# Altium schematic symbol library Schlib.SchLib: 160 symbols
Pins are listed as number, name and electrical type; pins without a type are passive.

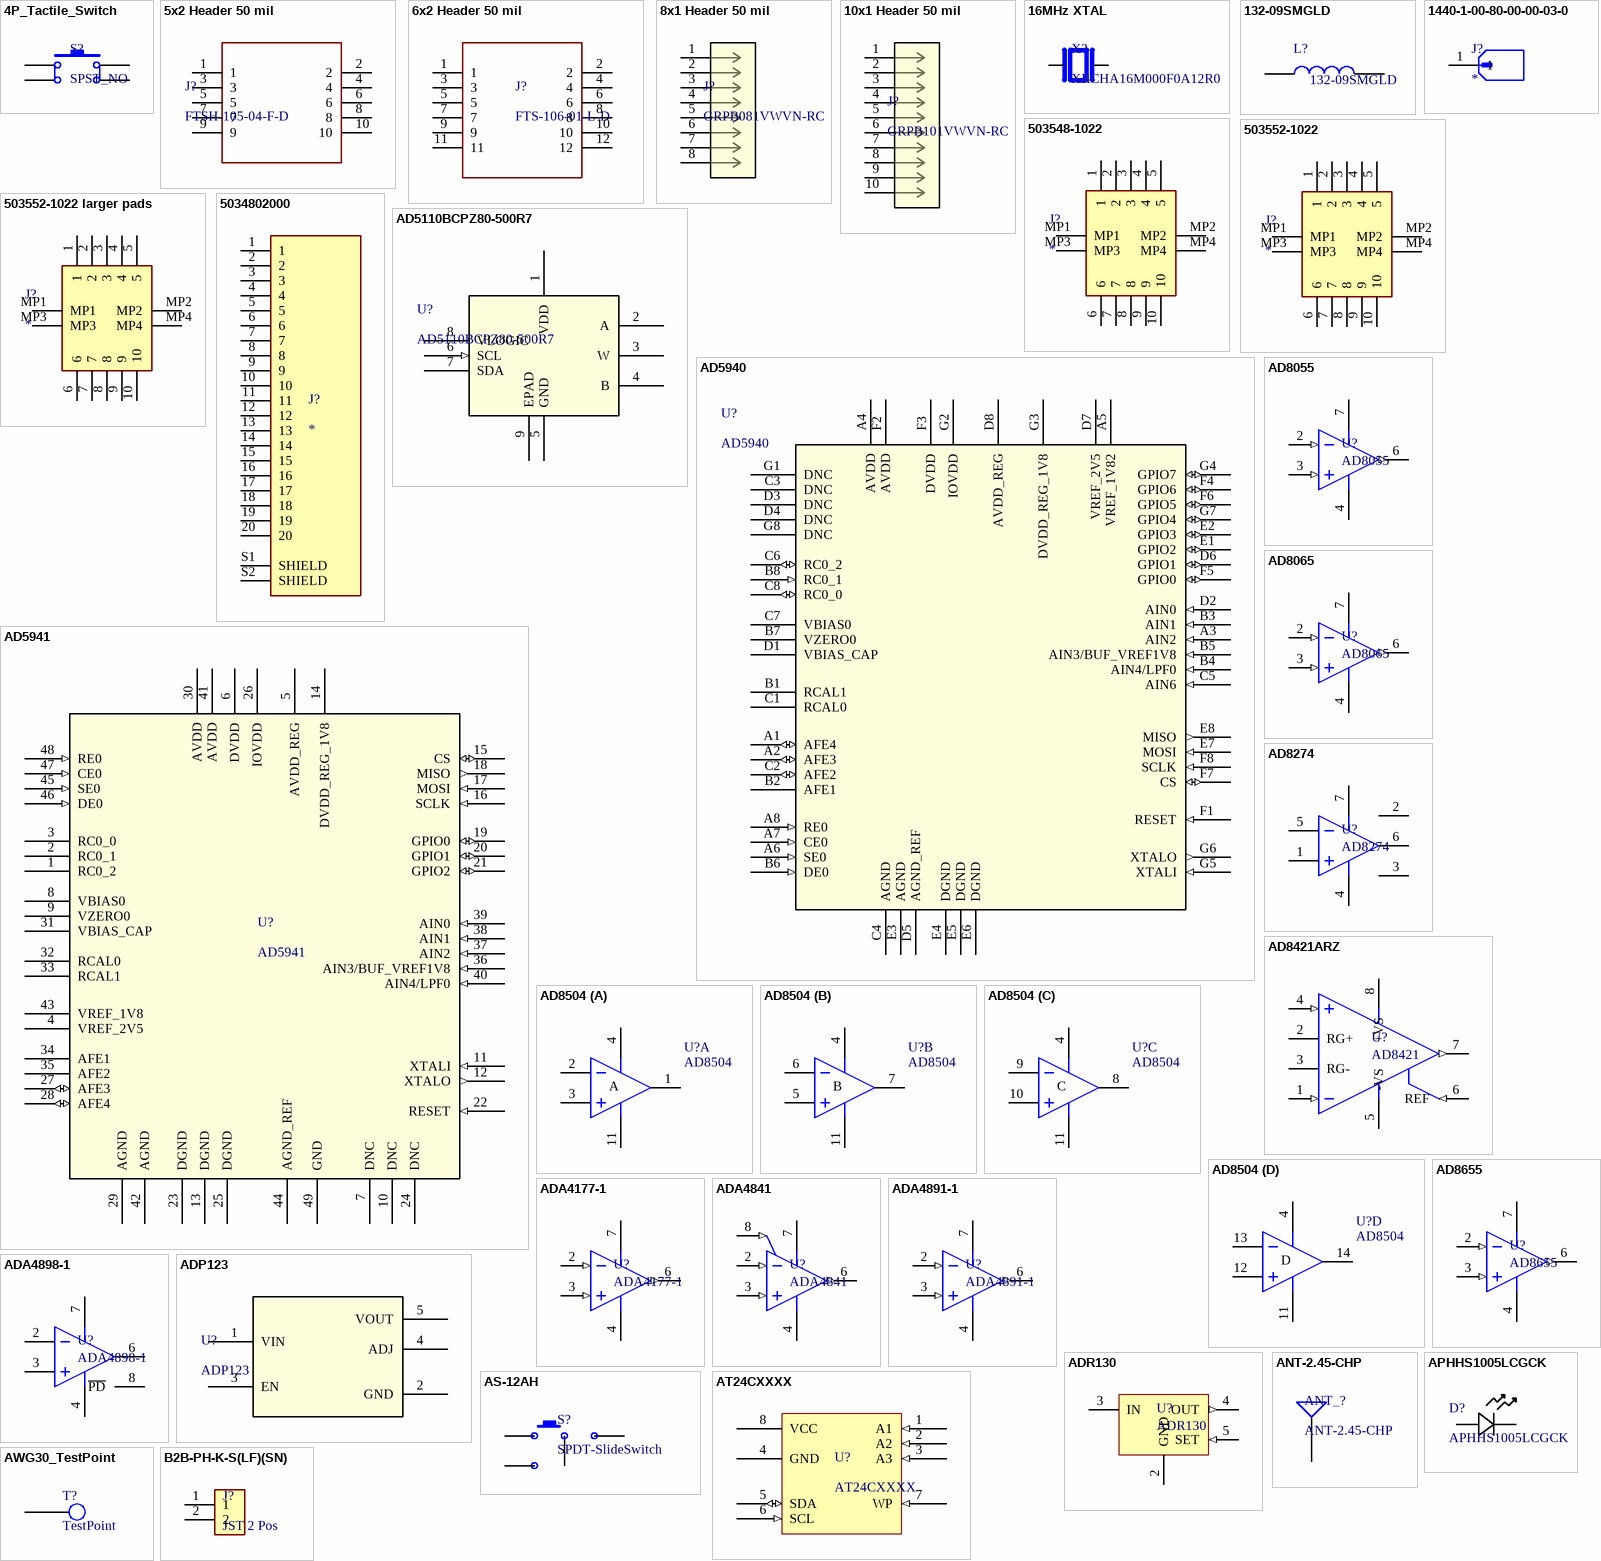
[diagram p0: symbols 4P_Tactile_Switch to B2B-PH-K-S(LF)(SN)]

## 4P_Tactile_Switch
designator S?, comment SPST_NO
4Pin Tactile Switch; Designer: OMIGA
footprint 6x6x5-4Pin-TS (6mm x 6mm x 5mm, 4-Pin, On Board, Tactile Switch)
pins: 1, 2, 3, 4

## 5x2 Header 50 mil
designator J?, comment FTSH-105-04-F-D
CONN HEADER VERT 10POS 1.27MM
footprint SAMTEC-FTSH-105-04-X-D
pins: 1, 2, 3, 4, 5, 6, 7, 8, 9, 10

## 6x2 Header 50 mil
designator J?, comment FTS-106-01-L-D
CONN HEADER VERT 12POS 1.27MM
footprint SAMTEC-FTS-106-01-X-D
pins: 1, 2, 3, 4, 5, 6, 7, 8, 9, 10, 11, 12

## 8x1 Header 50 mil
designator J?, comment GRPB081VWVN-RC
CONN HEADER VERT 8POS 1.27MM
footprint CONN8_VWVN-RC_SUL
pins: 1, 2, 3, 4, 5, 6, 7, 8

## 10x1 Header 50 mil
designator J?, comment GRPB101VWVN-RC
CONN HEADER VERT 10POS 1.27MM
footprint CONN_GRPB101VWVN-RC_SUL
pins: 1, 2, 3, 4, 5, 6, 7, 8, 9, 10

## 16MHz XTAL
designator X?, comment XRCHA16M000F0A12R0
CRYSTAL 16.0000MHZ 8PF SMD
footprint OSC_XRCHA16M000F0A12R0
pins: 1, 2

## 132-09SMGLD
designator L?
Fixed Inductors 90nH Unshld 2% 3.5A 15mOhms; Manufacturer_Name: COILCRAFT; Geometry.Height: 5.97mm; Mouser Part Number: *; Mouser Price/Stock: *; Manufacturer_Part_Number: 132-09SMGLD; Datasheet Link: https://www.coilcraft.com/pdfs/maxi.pdf
footprint 13209SMGLD
pins: 1, 2

## 1440-1-00-80-00-00-03-0
designator J?
PCB PIN, SURFACE MOUNT, 5.08MM; No. of Contacts:-; Connector Type:PCB Pin; Pitch Spacing:-; Product Range:1440 Series; Row Pitch:-; Contact Material:Brass Alloy; Contact Plating:Tin Plated Contacts RoHS Compliant: Yes; MP: 1440-1-00-80-00-00-03-0; MF: Mill-Max Mfg. Corp.; Check_prices: https://www.snapeda.com/parts/1440-1-00-80-00-00-03-0/Mill-Max/view-part/?ref=eda; Value: *; Availability: In Stock; Price: None; Package: None; SnapEDA_Link: https://www.snapeda.com/parts/1440-1-00-80-00-00-03-0/Mill-Max/view-part/?ref=snap; Purchase-URL: https://pricing.snapeda.com/search/part/1440-1-00-80-00-00-03-0/?ref=eda
footprint MILL-MAX_1440-1-00-80-00-00-03-0
pins: 1

## 503548-1022
designator J?
Board to Board Connector Male; Manufacturer_Name: Molex; Manufacturer_Part_Number: 503548-1022; Datasheet Link: https://www.molex.com/pdm_docs/sd/5035481022_sd.pdf; Height: 0.68mm; Mouser Part Number: 538-503548-1022; Mouser Price/Stock: https://www.mouser.co.uk/ProductDetail/Molex/503548-1022?qs=byeeYqUIh0O2sK3i9PoWtA%3D%3D
footprint 5035481022
pins: 1, 2, 3, 4, 5, 6, 7, 8, 9, 10, MP1, MP2, MP3, MP4

## 503552-1022
designator J?
Board to Board Connector Female; Manufacturer_Name: Molex; Manufacturer_Part_Number: 503552-1022; Datasheet Link: https://componentsearchengine.com//503552-1022.pdf; Height: 0.58mm; Mouser2 Part Number: 538-503552-1022; Mouser2 Price/Stock: https://www.mouser.com/Search/Refine.aspx?Keyword=538-503552-1022
footprint 5035521022
pins: 1, 2, 3, 4, 5, 6, 7, 8, 9, 10, MP1, MP2, MP3, MP4

## 503552-1022 larger pads
designator J?
Board to Board Connector Female; Manufacturer_Name: Molex; Manufacturer_Part_Number: 503552-1022; Datasheet Link: https://componentsearchengine.com//503552-1022.pdf; Height: 0.58mm; Mouser2 Part Number: 538-503552-1022; Mouser2 Price/Stock: https://www.mouser.com/Search/Refine.aspx?Keyword=538-503552-1022
footprint 5035521022 - larger pads
pins: 1, 2, 3, 4, 5, 6, 7, 8, 9, 10, MP1, MP2, MP3, MP4

## 5034802000
designator J?
20 Position FFC, FPC Connector Contacts, Top and Bottom 0.020 (0.50mm) Surface Mount, Right Angle; MP: 503480-2000; MF: Molex; Check_prices: https://www.snapeda.com/parts/503480-2000/Molex/view-part/?ref=eda; Value: *; Availability: In Stock; Price: None; Package: None; SnapEDA_Link: https://www.snapeda.com/parts/503480-2000/Molex/view-part/?ref=snap; Purchase-URL: https://pricing.snapeda.com/search/part/503480-2000/?ref=eda
footprint MOLEX_5034802000
pins: 1, 2, 3, 4, 5, 6, 7, 8, 9, 10, 11, 12, 13, 14, 15, 16, 17, 18, 19, 20, S1 SHIELD, S2 SHIELD

## AD5110BCPZ80-500R7
designator U?
No Description Available; Mfr_Name: Analog Devices Inc; Copyright: Copyright (C) 2022 Ultra Librarian. All rights reserved.; Manufacturer_Part_Number: AD5110BCPZ80-500R7; Digi-Key_Part_Number_1: AD5110BCPZ80-500R7CT-ND; Digi-Key_Part_Number_2: AD5110BCPZ80-500R7DKR-ND; Digi-Key_Part_Number_3: AD5110BCPZ80-500R7TR-ND; RefDes: RefDes; Type: DEV
footprint CP_8_10_ADI-L
pins: 1 VDD (power), 2 A, 3 W, 4 B, 5 GND, 6 SCL (in), 7 SDA, 8 VLOGIC (power), 9 EPAD

## AD5940
designator U?
High Precision, Impedance, and / Electrochemical Front End
footprint CB-56-3_ADI
pins: A1 AFE4 (io), A2 AFE3 (io), A3 AIN2 (in), A4 AVDD (power), A5 VREF_1V82 (power), A6 SE0 (in), A7 CE0 (in), A8 RE0 (in), B1 RCAL1, B2 AFE1, B3 AIN1 (in), B4 AIN4/LPF0 (in), B5 AIN3/BUF_VREF1V8 (in), B6 DE0 (in), B7 VZERO0 (power), B8 RC0_1 (in), C1 RCAL0, C2 AFE2 (io), C3 DNC, C4 AGND, C5 AIN6 (in), C6 RC0_2 (io), C7 VBIAS0, C8 RC0_0 (io), D1 VBIAS_CAP (power), D2 AIN0 (in), D3 DNC, D4 DNC, D5 AGND_REF, D6 GPIO1 (io), D7 VREF_2V5 (power), D8 AVDD_REG (power), E1 GPIO2 (io), E2 GPIO3 (io), E3 AGND, E4 DGND, E5 DGND, E6 DGND, E7 MOSI (in), E8 MISO (out), F1 RESET (in), F2 AVDD (power), F3 DVDD (power), F4 GPIO6 (io), F5 GPIO0 (io), F6 GPIO5 (io), F7 CS (io), F8 SCLK (in), G1 DNC, G2 IOVDD (power), G3 DVDD_REG_1V8 (power), G4 GPIO7 (io), G5 XTALI (in), G6 XTALO (out), G7 GPIO4 (io), G8 DNC

## AD5941
designator U?
High Precision, Impedance, and / Electrochemical Front End
footprint LFCSP-48
pins: 1 RC0_2, 2 RC0_1, 3 RC0_0, 4 VREF_2V5 (power), 5 AVDD_REG (power), 6 DVDD (power), 7 DNC, 8 VBIAS0 (power), 9 VZERO0 (power), 10 DNC, 11 XTALI (in), 12 XTALO (out), 13 DGND, 14 DVDD_REG_1V8 (power), 15 CS (io), 16 SCLK (in), 17 MOSI (in), 18 MISO (out), 19 GPIO0 (io), 20 GPIO1 (io), 21 GPIO2 (io), 22 RESET (in), 23 DGND, 24 DNC, 25 DGND, 26 IOVDD (power), 27 AFE3 (io), 28 AFE4 (io), 29 AGND, 30 AVDD (power), 31 VBIAS_CAP (power), 32 RCAL0, 33 RCAL1, 34 AFE1, 35 AFE2, 36 AIN3/BUF_VREF1V8 (in), 37 AIN2 (in), 38 AIN1 (in), 39 AIN0 (in), 40 AIN4/LPF0 (in), 41 AVDD (power), 42 AGND, 43 VREF_1V8 (power), 44 AGND_REF, 45 SE0 (in), 46 DE0 (in), 47 CE0 (in), 48 RE0 (in), 49 GND

## AD8055
designator U?
Low Cost, 300 MHz, Voltage Feedback Amplifiers; Designer: OMIGA
footprint 8ld - SOP_N (SOP, 8-Leads, Body 4.90x3.90mm, Pitch 1.27mm, IPC Low Density)
pins: 1 NC hidden, 2 -IN (in), 3 +IN (in), 4 -VS (power), 5 NC hidden, 6 VOUT (out), 7 +VS (power), 8 NC hidden

## AD8065
designator U?
High Performance, 145 MHz, FastFET Op Amps; Designer: OMIGA
footprint 8ld - SOP_N (SOP, 8-Leads, Body 4.90x3.90mm, Pitch 1.27mm, IPC Low Density)
pins: 1 NC hidden, 2 -IN (in), 3 +IN (in), 4 -VS (power), 5 NC hidden, 6 VOUT (out), 7 +VS (power), 8 NC hidden

## AD8274
designator U?
Very Low Distortion, Precision Difference Amplifier; Designer: OMIGA
footprint 8ld - SOP_N (SOP, 8-Leads, Body 4.90x3.90mm, Pitch 1.27mm, IPC Low Density)
pins: 1 +IN, 2 -OUT, 3 +OUT, 4 -VS (power), 5 -IN, 6 VOUT, 7 +VS (power), 8 NC hidden

## AD8421ARZ
designator U?, comment AD8421
3 nV/√Hz, Low Power, Instrumentation Amplifier; Designer: OMIGA
footprint 8ld - SOP_N (SOP, 8-Leads, Body 4.90x3.90mm, Pitch 1.27mm, IPC Low Density)
pins: 1 -IN (in), 2 RG+, 3 RG-, 4 +IN (in), 5 -VS (power), 6 REF (in), 7 VOUT (out), 8 +VS (power)

## AD8504
designator U?
1 μA Micropower CMOS  Operational Amplifiers; Designer: OMIGA
footprint SOP14 (TSOP, 14-Leads, Body 5.00x4.40mm, Pitch 0.65mm, IPC Low Density)
pins on every part: 4 V+ (power), 11 V- (power)
part A pins: 1 OUT, 2 IN-, 3 IN+
part B pins: 5 IN+, 6 IN-, 7 OUT
part C pins: 8 OUT, 9 IN-, 10 IN+
part D pins: 12 IN+, 13 IN-, 14 OUT
part A text: A
part B text: B
part C text: C
part D text: D

## AD8655
designator U?
Low Noise, Precision CMOS Amplifier; Designer: OMIGA
footprint 8ld - SOP_N (SOP, 8-Leads, Body 4.90x3.90mm, Pitch 1.27mm, IPC Low Density)
pins: 1 NC hidden, 2 -IN (in), 3 +IN (in), 4 -VS (power), 5 NC hidden, 6 VOUT (out), 7 +VS (power), 8 NC hidden

## ADA4177-1
designator U?
OVP and EMI Protected, Precision, Low Noise and Bias Current Op Amps; Designer: OMIGA
footprint 8ld - SOP_N (SOP, 8-Leads, Body 4.90x3.90mm, Pitch 1.27mm, IPC Low Density)
pins: 1 NC hidden, 2 -IN (in), 3 +IN (in), 4 -VS (power), 5 NC hidden, 6 VOUT (out), 7 +VS (power), 8 NC hidden

## ADA4841
designator U?
Single Channel Low Wide Band Noise Operational Amplifier, 80 MHz BW, 13 V/us SR, Industrial, 8-pin SOIC (R-8), Tube; Designer: OMIGA
footprint 8ld - SOP_N (SOP, 8-Leads, Body 4.90x3.90mm, Pitch 1.27mm, IPC Low Density)
pins: 1 NC hidden, 2 -IN (in), 3 +IN (in), 4 -VS (power), 5 NC hidden, 6 VOUT (out), 7 +VS (power), 8 ~{POWER DOWN} (in)

## ADA4891-1
designator U?
Low-cost CMOS, High-Speed, Rail-to-Rail Amplifier; Designer: OMIGA
footprint 8ld - SOP_N (SOP, 8-Leads, Body 4.90x3.90mm, Pitch 1.27mm, IPC Low Density)
pins: 1 NC hidden, 2 -IN (in), 3 +IN (in), 4 -VS (power), 5 NC hidden, 6 VOUT (out), 7 +VS (power), 8 NC hidden

## ADA4898-1
designator U?
High Voltage, Low Noise, Low Distortion, / Unity-Gain Stable, High Speed Op Amp; Designer: OMIGA
footprint 8ld - SOP_N (SOP, 8-Leads, Body 4.90x3.90mm, Pitch 1.27mm, IPC Low Density)
pins: 1 NC hidden, 2 -IN, 3 +IN, 4 -VS (power), 5 NC hidden, 6 VOUT, 7 +VS (power), 8 ~{PD}

## ADP123
designator U?
5.5 V Input, 300 mA, Low Quiescent / Current, CMOS Linear Regulator
footprint 5-lead TSOT (LDO ADJ)
pins: 1 VIN, 2 GND, 3 EN, 4 ADJ, 5 VOUT

## ADR130
designator U?
Precision Series Sub-Band Gap Voltage Reference; Designer: OMIGA
footprint 6ld - TSOP (TSOP, 6-Leads, Body 2.90x1.60mm, Pitch 0.95mm, IPC Low Density)
pins: 1 NC hidden, 2 GND, 3 IN (power), 4 OUT (out), 5 SET (in), 6 NC hidden

## ANT-2.45-CHP
designator ANT_?
Ultra Compact Chip Antenna; Designer: OMIGA
footprint ANT-2.45-CHP (Chip Antenna, 2-Leads, Body 6.50x2.20mm, IPC Low Density)
pins: 0 NC hidden "Do not connect to GND", 1 ANT "Antenna Input"

## APHHS1005LCGCK
designator D?
Green LED 0402; Mfr_Name: Kingbright; Type: DEV; Copyright: Copyright (C) 2022 Ultra Librarian. All rights reserved.; Manufacturer_Part_Number: APHHS1005LCGCK; RefDes: RefDes
footprint 0402-LED
pins: 1, 2

## AS-12AH
designator S?, comment SPDT-SlideSwitch
Right Angle Subminiator Slide SPDT; Designer: OMIGA
footprint AS-12AH (Right Angle Subminiator Slide Switch)
pins: 1, 2, 3, 4

## AT24CXXXX
designator U?
Two-wire Serial  EEPROM; Designer: OMIGA
footprint 8Ld-PDIP (8-Lead Plastic Dual In-Line Package, Narrow Body)
pins: 1 A1 (in) "Address Bit 1", 2 A2 (in) "Address Bit 2", 3 A3 (in) "Address Bit 3", 4 GND (power) "Ground", 5 SDA (io) "Serial Data", 6 SCL (in) "Serial Clock", 7 WP (in) "Write Protect", 8 VCC (power) "Power"

## AWG30_TestPoint
designator T?, comment TestPoint
Test Point for AWG 30 wire; Designer: OMIGA
footprint AWG30_TestPoint (Test Point for AWG30 Wires)
pins: 1 "Signal"

## B2B-PH-K-S(LF)(SN)
designator J?, comment JST 2 Pos
Connector Header Through Hole 2 position 0.079 _2.00mm_                    455-1704-ND; Parameter 1: 455-1704-ND
footprint B2B-PH (Connector Header Through Hole 2 position 0.079 _2.00mm_)
pins: 1, 2

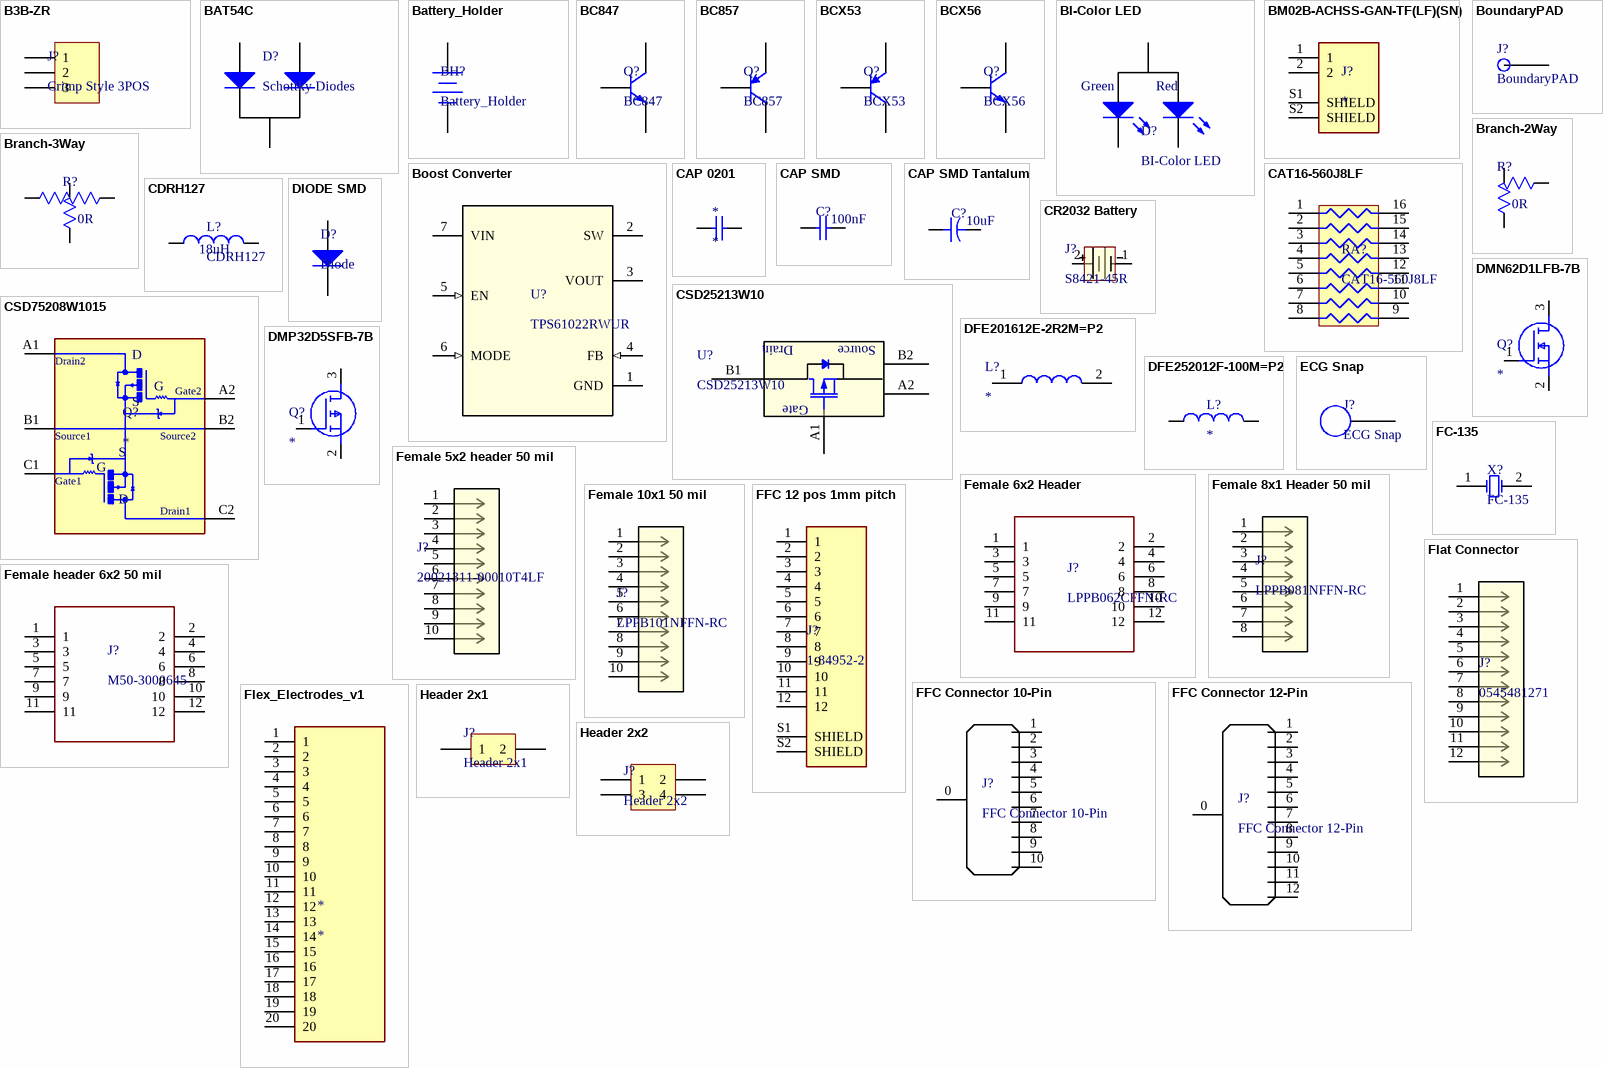
[diagram p1: symbols B3B-ZR to Header 2x2]

## B3B-ZR
designator J?, comment Crimp Style 3POS
Connector crimp style vertical 3 position, 1.5mm; Designer: OMIGA
footprint B3B-ZR (Connector crimp style vertical, 1.5mm)
pins: 1, 2, 3

## BAT54C
designator D?, comment Schottky Diodes
Small Signal Schottky Diodes; Designer: OMIGA
footprint SOT23-3-Lead (SOT23, 3-Leads, Body 2.92x2.40mm, Pitch 0.95mm, IPC Low Density)
pins: 1 AL, 2 AR, 3 K

## Battery_Holder
designator BH?
Designer: OMIGA
footprint BH_20MM_TH (20mm Through Hole Battery Holder)
pins: 1 - (power), 2 + (power)

## BC847
designator Q?
NPN general-purpose transistors; Designer: OMIGA
footprint SOT23-3-Lead (SOT23, 3-Leads, Body 2.92x2.40mm, Pitch 0.95mm, IPC Low Density)
pins: 1 B "Base", 2 E "Emitter", 3 C "Collector"

## BC857
designator Q?
PNP general-purpose transistors; Designer: OMIGA
footprint SOT23-3-Lead (SOT23, 3-Leads, Body 2.92x2.40mm, Pitch 0.95mm, IPC Low Density)
pins: 1 B "Base", 2 E "Emitter", 3 C "Collector"

## BCX53
designator Q?
80 V, 1 A PNP medium power transistors; Designer: OMIGA
simulation model BCX53 (PNP Silicon AF Transistor)
footprint SOT89 (SOT89, 3-Leads, Body 4.50x2.50mm, Pitch 1.50mm, Lead Span 4.0mm, IPC Low Density)
pins: 1 B, 2 C, 3 E

## BCX56
designator Q?
80 V, 1 A NPN medium power transistors; Designer: OMIGA
simulation model BCX53 (PNP Silicon AF Transistor)
footprint SOT89 (SOT89, 3-Leads, Body 4.50x2.50mm, Pitch 1.50mm, Lead Span 4.0mm, IPC Low Density)
pins: 1 B "Base", 2 C "Collector", 3 E "Emitter"

## BI-Color LED
designator D?  Color1: Green  Color2: Red
BI-Color RED/GREEN LED Lamp; Designer: OMIGA
footprint Bi-Color-LED (Bi Color LED Lamp)
pins: 1 AR, 2 K, 3 AG

## BM02B-ACHSS-GAN-TF(LF)(SN)
designator J?
Connector Header Surface Mount, Right Angle 2 position 0.047 (1.20mm); MP: BM02B-ACHSS-GAN-TF(LF)(SN); MF: JST Sales; Value: *; Package: None; Check_prices: https://www.snapeda.com/parts/BM02B-ACHSS-GAN-TF(LF)(SN)/JST+Sales+America+Inc./view-part/?ref=eda; Price: None; Purchase-URL: https://pricing.snapeda.com/search/part/BM02B-ACHSS-GAN-TF(LF)(SN)/?ref=eda; SnapEDA_Link: https://www.snapeda.com/parts/BM02B-ACHSS-GAN-TF(LF)(SN)/JST+Sales+America+Inc./view-part/?ref=snap; Availability: In Stock
footprint JST_BM02B-ACHSS-GAN-TF(LF)(SN)
pins: 1, 2, S1 SHIELD, S2 SHIELD

## Boost Converter
designator U?, comment TPS61022RWUR
Switching Voltage Regulators 8-A boost converter with 0.5-V ultra-low input voltage 7-VQFN-HR -40 to 125; Manufacturer: Texas Instruments; PartNumber: TPS61022RWUR; RefDes: RefDes; Type: DEV; Value: Value; Copyright: Copyright (C) 2018 Accelerated Designs. All rights reserved
footprint TPS61022RWUR
pins: 1 GND (power), 2 SW (power), 3 VOUT (power), 4 FB (in), 5 EN (in), 6 MODE (in), 7 VIN (power)

## BoundaryPAD
designator J?
Boundary PAD; Designer: OMIGA
footprint BoundaryPAD (Pad For Connecting Interfaces)
pins: 1

## Branch-2Way
designator R?, comment Velue: 0R  (hidden comment: RES)
Surface Mount Resistor Branch; Designer: OMIGA
footprint Branch-2Way-603-S (Resistive Branch, 3-Leads, Body 1.60x0.80mm, IPC Low Density)
footprint Branch-2Way-603-P1 (Resistive Branch, 3-Leads, Body 1.60x0.80mm, IPC Low Density)
footprint Branch-2Way-603-P2 (Resistive Branch, 3-Leads, Body 1.60x0.80mm, IPC Low Density)
footprint Branch-2Way-TH-P2 (Resistive Branch, 3-Holes, Body 1.60x0.80mm, IPC Low Density)
pins: 1, 2, 3

## Branch-3Way
designator R?, comment value 0R  (hidden comment: RES)
Surface Mount Resistor Branch; Designer: OMIGA
footprint Branch-3Way-603 (Resistive Branch, 4-Leads, Body 1.60x0.80mm, IPC Low Density)
pins: 1, 2, 3, 4

## CAP 0201
designator *
footprint 0201 cap
pins: 1, 2

## CAP SMD
designator C?, comment value 100nF  (hidden comment: CAP)
Multilayer Chip Capacitor; Designer: OMIGA
signal-integrity model CAP (Capacitor)
footprint 0603-CAP (Chip Capacitor, 2-Leads, Body 1.60x0.80mm, IPC Low Density)
footprint 0805-CAP (Chip Capacitor, 2-Leads, Body 2.00x1.25mm, IPC Low Density)
footprint 1206-CAP (Chip Capacitor, 2-Leads, Body 3.20x1.60mm, IPC Low Density)
simulation model MLCC (Surface Mount Multi Layer Ceramic Capacitor)
footprint 0402-CAP (Chip Capacitor, 2-Leads, Body 1.00x0.50mm, IPC Low Density)
footprint 0201 cap
pins: 1, 2

## CAP SMD Tantalum
designator C?, comment value 10uF  (hidden comment: CAP)
Tantalum Capacitor; Designer: OMIGA
footprint A Size Molded Cap (Molded Capacitor, 2-Leads, Size A, IPC Low Density)
pins: 1, 2

## CAT16-560J8LF
designator RA?
CAT 16 Series - Chip Resistor Arrays; Designer: OMIGA; VALUE: 56R
footprint CAT16-F8-J8 (CHIP ARRAY RES, 16-Leads, Body 6.40x1.30mm, Pitch 0.8mm, IPC Low Density)
signal-integrity model CAT16-560J8LF (CHIP RESISTOR ARRAY From Bourns)
pins: 1, 2, 3, 4, 5, 6, 7, 8, 9, 10, 11, 12, 13, 14, 15, 16

## CDRH127
designator L?  value 18uH
SMD POWER INDUCTOR; Designer: OMIGA
signal-integrity model Model Name (Model Description)
footprint CDRH Land Pattern (Precision Wire Wound Inductor, 2-Leads, Body 12.15x12.15mm, IPC Low Density)
simulation model CDRH (Surface Mount Shield Power Inductor)
pins: 1, 2

## CR2032 Battery
designator J?, comment S8421-45R
BATTERY HOLDER COIN 20MM SMD
footprint S8421-45R_HRW
pins: 1, 2

## CSD25213W10
designator U?
No Description Available; Mfr_Name: Texas Instruments; Copyright: Copyright (C) 2022 Ultra Librarian. All rights reserved.; Manufacturer_Part_Number: CSD25213W10; Digi-Key_Part_Number_1: 296-40004-1-ND; Digi-Key_Part_Number_2: 296-40004-2-ND; Digi-Key_Part_Number_3: 296-40004-6-ND; Digi-Key_Part_Number_4: CSD25213W10-ND; RefDes: RefDes; Type: DEV
footprint YZB4_TEX
pins: A1 GATE, A2 SOURCE, B1 DRAIN, B2 SOURCE
text: Drain; Source; Gate

## CSD75208W1015
designator Q?
-20-V, P channel NexFETâ„¢ power MOSFET, dual Common Source WLP 1 mm x 1.5 mm, 108 mOhm, gate ESD prot; MF: Texas Instruments; MP: CSD75208W1015; SnapEDA_Link: https://www.snapeda.com/parts/CSD75208W1015/Texas+Instruments/view-part/?ref=snap; Price: None; Check_prices: https://www.snapeda.com/parts/CSD75208W1015/Texas+Instruments/view-part/?ref=eda; Value: *; Package: DSBGA-6 Texas Instruments; Availability: In Stock; Purchase-URL: https://pricing.snapeda.com/search/part/CSD75208W1015/?ref=eda
footprint BGA6C50P2X3_145X95X62
pins: A1 DRAIN2, A2 GATE2, B1 SOURCE1, B2 SOURCE2, C1 GATE1, C2 DRAIN1
text: D; Drain2; G; Gate2; S; Source1; Source2; Gate1; Drain1

## DFE201612E-2R2M=P2
designator L?
Inductor; Manufacturer_Name: Murata Electronics; Manufacturer_Part_Number: DFE201612E-2R2M=P2; Datasheet Link: https://componentsearchengine.com//DFE201612E-2R2M=P2.pdf; Height: 1.2mm; Mouser2 Part Number: 81-DFE201612E-2R2MP2; Mouser2 Price/Stock: https://www.mouser.com/Search/Refine.aspx?Keyword=81-DFE201612E-2R2MP2
footprint 1286ASH1R0MP2
pins: 1, 2

## DFE252012F-100M=P2
designator L?
Inductor with Inductance: 10uH Tol. +/-20%, Package: 1008 (2520); MF: Murata Electronics; MP: DFE252012F-100M=P2; SnapEDA_Link: https://www.snapeda.com/parts/DFE252012F-100M=P2/Murata%20Electronics%20North%20America/view-part/1498782/?ref=snap; Value: *; Digi-Key_Part_Number: 490-13050-1-ND; Mouser-Purchase-URL: https://snapeda.com/shop?store=Mouser&id=1498782; DigiKey-Purchase-URL: https://snapeda.com/shop?store=DigiKey&id=1498782; Package: 2520 Murata
footprint INDC2520X120N
pins: 1, 2

## DIODE SMD
designator D?, comment Diode
SMD Diode; Designer: OMIGA
footprint SMA (Molded Diode, 2-Leads, Body 4.30x2.70mm)
footprint MiniMELF (MELF Diode, 2-Leads, Body 3.50x1.50mm, IPC Medium Density)
pins: 1 Cathode, 2 Anode

## DMN62D1LFB-7B
designator Q?
MOSFET (N-Channel); Manufacturer_Name: Diodes Inc.; Manufacturer_Part_Number: DMN62D1LFB-7B; Datasheet Link: https://www.diodes.com/assets/Datasheets/DMN62D1LFB.pdf; Height: 0.53mm; Mouser Part Number: 621-DMN62D1LFB-7B; Mouser Price/Stock: https://www.mouser.co.uk/ProductDetail/Diodes-Incorporated/DMN62D1LFB-7B?qs=y6ZabgHbY%252BxTi2UB8%252BIvCg%3D%3D; Arrow Part Number: DMN62D1LFB-7B; Arrow Price/Stock: https://www.arrow.com/en/products/dmn62d1lfb-7b/diodes-incorporated?region=nac
footprint DESD6V8DLP7
pins: 1 G, 2 S, 3 D

## DMP32D5SFB-7B
designator Q?
MOSFET (P-Channel); Manufacturer_Name: Diodes Inc.; Manufacturer_Part_Number: DMP32D5SFB-7B; Datasheet Link: https://www.diodes.com/assets/Datasheets/DMP32D5SFB.pdf; Height: 0.53mm; Mouser Part Number: 621-DMP32D5SFB-7B; Mouser Price/Stock: https://www.mouser.co.uk/ProductDetail/Diodes-Incorporated/DMP32D5SFB-7B?qs=MNIFWdyJgboORiafCqUWHQ%3D%3D; Arrow Part Number: DMP32D5SFB-7B; Arrow Price/Stock: https://www.arrow.com/en/products/dmp32d5sfb-7b/diodes-incorporated
footprint DESD6V8DLP7
pins: 1 G, 2 S, 3 D

## ECG Snap
designator J?
ECG Lead Snap Button; Designer: OMIGA
footprint ECG Snap (ECG Lead Snap Grabber)
pins: 1 ECG Lead

## FC-135
designator X?
KHz Range Crystal Oscillator; Designer: OMIGA
footprint FC-135 (DFN, 2-Leads, Body 3.20x1.50mm, IPC Low Density)
pins: 1 OSC1, 2 OSC2

## Female 5x2 header 50 mil
designator J?, comment 20021311-00010T4LF
CONN RCPT 10POS 0.05 GOLD PCB
footprint CONN_20021311-00010T4LF_AMP
pins: 1, 2, 3, 4, 5, 6, 7, 8, 9, 10

## Female 6x2 Header
designator J?, comment LPPB062CFFN-RC
CONN HDR 12POS 0.05 GOLD PCB
footprint Female_SAMTEC-FTS-106-01-X-D
pins: 1, 2, 3, 4, 5, 6, 7, 8, 9, 10, 11, 12

## Female 8x1 Header 50 mil
designator J?, comment LPPB081NFFN-RC
CONN HDR 8POS 0.05 GOLD PCB
footprint Sullins_Connector_Solutions_0_MFG
pins: 1, 2, 3, 4, 5, 6, 7, 8

## Female 10x1 50 mil
designator J?, comment LPPB101NFFN-RC
CONN HDR 10POS 0.05 GOLD PCB
footprint Female 10x1 50 mil
pins: 1, 2, 3, 4, 5, 6, 7, 8, 9, 10

## Female header 6x2 50 mil
designator J?, comment M50-3000645
CONN RCPT 12POS 0.05 GOLD PCB
footprint Female 6x2 50 mil
pins: 1, 2, 3, 4, 5, 6, 7, 8, 9, 10, 11, 12

## FFC 12 pos 1mm pitch
designator J?, comment 1-84952-2
CONN FPC BOTTOM 12POS 1.00MM R/A
footprint TE_1-84952-2
pins: 1, 2, 3, 4, 5, 6, 7, 8, 9, 10, 11, 12, S1 SHIELD, S2 SHIELD

## FFC Connector 10-Pin
designator J?
Designer: OMIGA
footprint FFC-Socket-10 (SMD FFC Cable ZIF Socket 10 Pin)
pins: 0 Shell, 1, 2, 3, 4, 5, 6, 7, 8, 9, 10

## FFC Connector 12-Pin
designator J?
Designer: OMIGA
footprint FFC-Socket-12 (SMD FFC Cable ZIF Socket 12 Pin)
pins: 0 Shell, 1, 2, 3, 4, 5, 6, 7, 8, 9, 10, 11, 12

## Flat Connector
designator J?, comment 0545481271
12 Position FFC, FPC Connector Contacts, Bottom 0.020" (0.50mm) Surface Mount, Right Angle
footprint CON00356_12_MOL
pins: 1, 2, 3, 4, 5, 6, 7, 8, 9, 10, 11, 12

## Flex_Electrodes_v1
designator *
footprint Flex_Electrodes_v1
pins: 1, 2, 3, 4, 5, 6, 7, 8, 9, 10, 11, 12, 13, 14, 15, 16, 17, 18, 19, 20

## Header 2x1
designator J?
Pin Header 2x1; Designer: OMIGA
footprint Header 1x2 (2-Pin, 1 Row, 2 Column Header)
pins: 1, 2

## Header 2x2
designator J?
Pin Header 2x2; Designer: OMIGA
footprint Header 2x2 (4-Pin, 2 Row, 2 Column Header)
pins: 1, 2, 3, 4

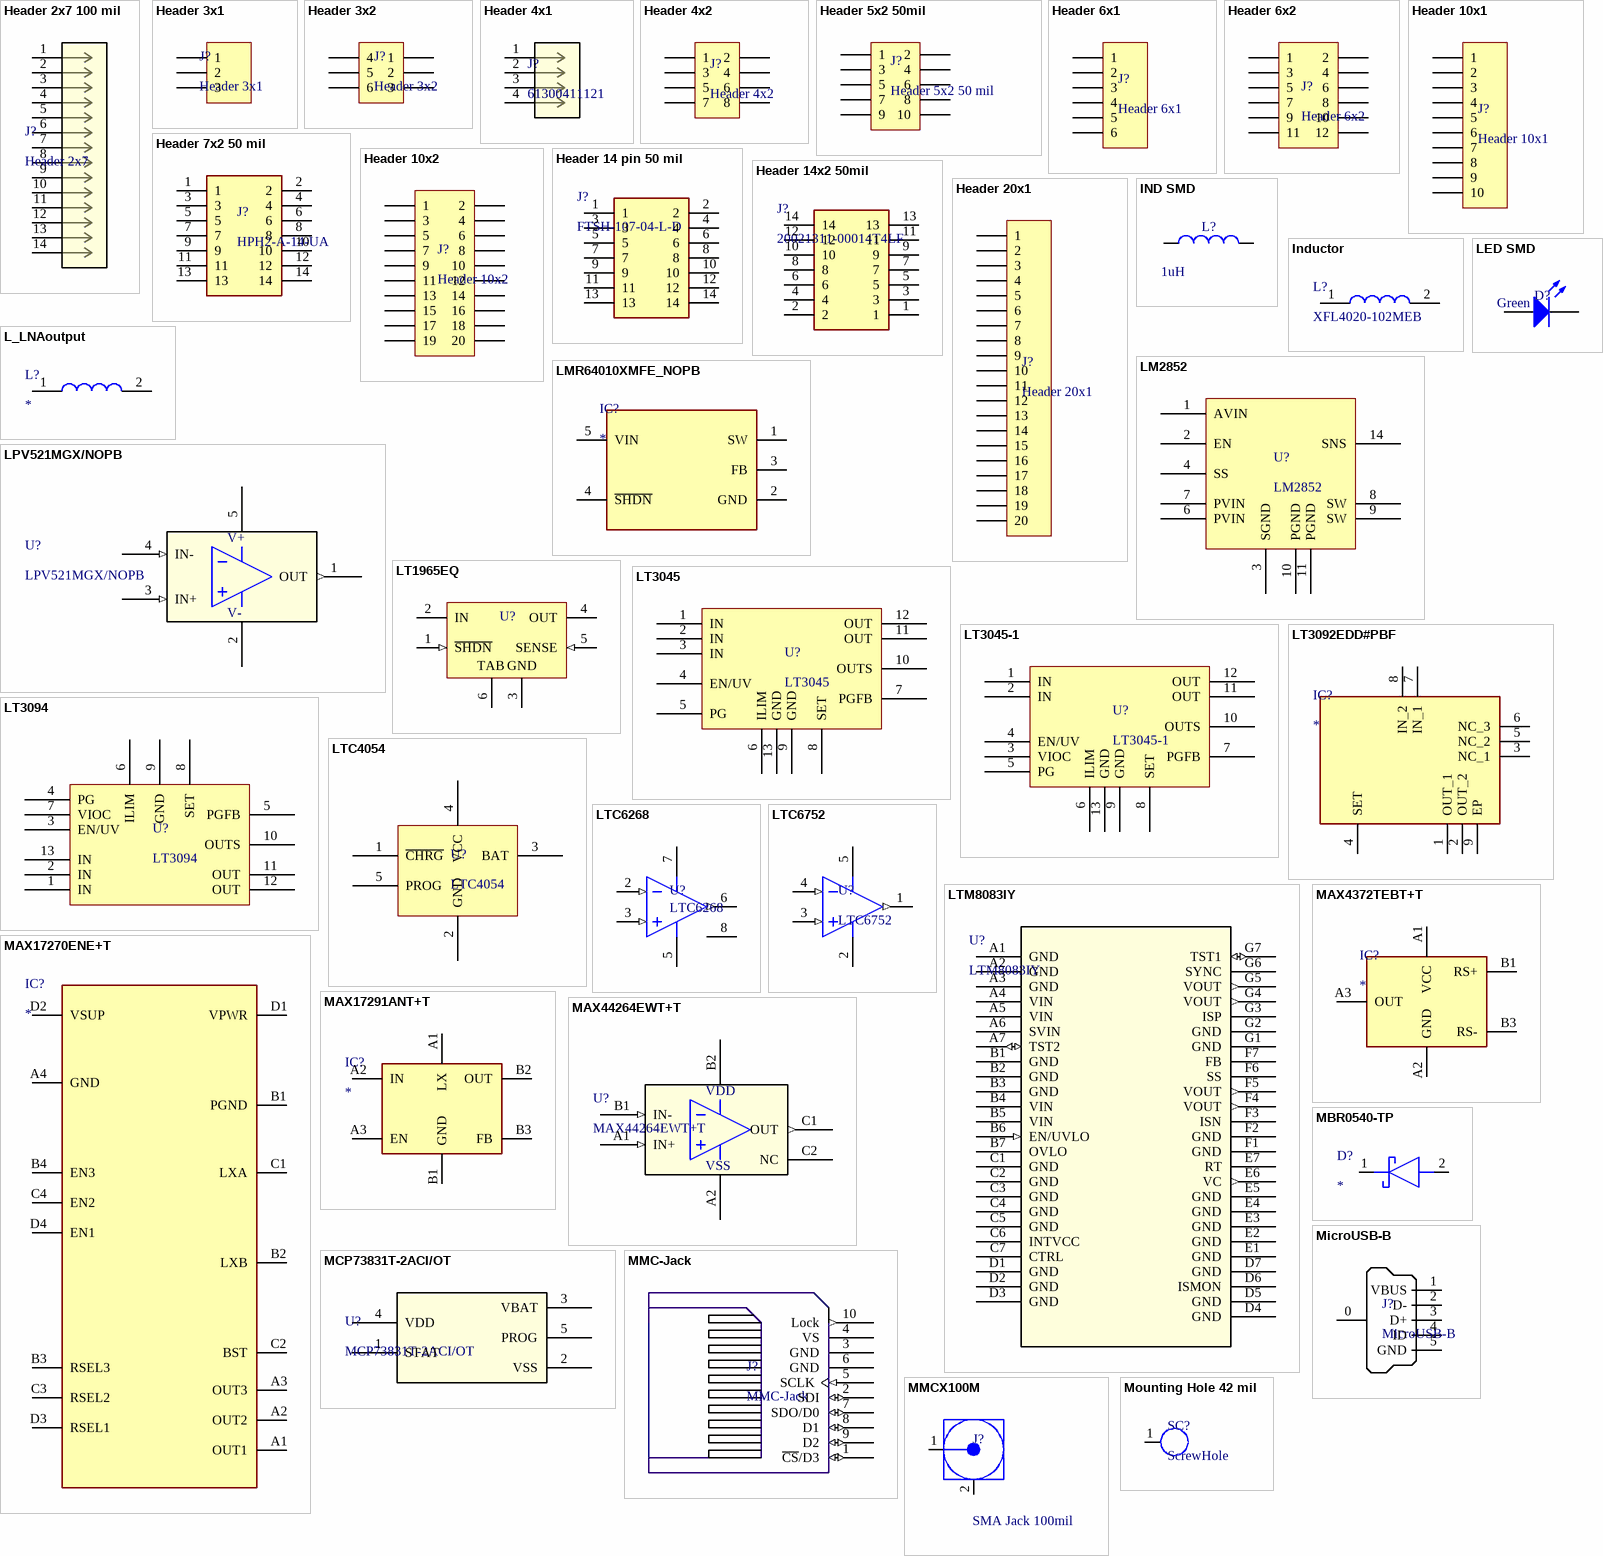
[diagram p2: symbols Header 2x7 100 mil to Mounting Hole 42 mil]

## Header 2x7 100 mil
designator J?, comment Header 2x7
Pin Header 2x7
footprint 67996-114_AMP
pins: 1, 2, 3, 4, 5, 6, 7, 8, 9, 10, 11, 12, 13, 14

## Header 3x1
designator J?
Pin Header 3x1; Designer: OMIGA
footprint Header 3x1 (3-Pin, 1 Row, Header)
pins: 1, 2, 3

## Header 3x2
designator J?
Pin Header 3x2; Designer: OMIGA
footprint HEADER 3X2 SM (Surface Mount 3x2 Pin Header)
pins: 1, 2, 3, 4, 5, 6

## Header 4x1
designator J?, comment 61300411121
CONN HEADER VERT 4POS 2.54MM
footprint CONN_61300411121_WRE
pins: 1, 2, 3, 4

## Header 4x2
designator J?
Pin Header 4x2; Designer: OMIGA
footprint Header 4x2 (8-Pin, 4 Row, 2 Column Header)
pins: 1, 2, 3, 4, 5, 6, 7, 8

## Header 5x2 50mil
designator J?, comment Header 5x2 50 mil
Pin header 5x2 50 mil SAM9430-ND; Parameter 1: SAM9430-ND
footprint Header 5x2 50mil
pins: 1, 2, 3, 4, 5, 6, 7, 8, 9, 10

## Header 6x1
designator J?
Pin Header 6x1; Designer: OMIGA
footprint Header 6x1 (6-Pin, 1 Row, Header)
pins: 1, 2, 3, 4, 5, 6

## Header 6x2
designator J?
Pin Header 6x2; Designer: OMIGA
footprint Header 6x2 (12-Pin, 6 Row, 2 Column Header)
pins: 1, 2, 3, 4, 5, 6, 7, 8, 9, 10, 11, 12

## Header 7x2 50 mil
designator J?, comment HPH2-A-14-UA
CONN HEADER VERT 14POS 1.27MM
footprint 7x2 Header 50 mil
pins: 1, 2, 3, 4, 5, 6, 7, 8, 9, 10, 11, 12, 13, 14

## Header 10x1
designator J?
Pin Header 10x1
footprint Header 10x1 (20-Pin, 10 Row, 2 Column Header)
pins: 1, 2, 3, 4, 5, 6, 7, 8, 9, 10

## Header 10x2
designator J?
Pin Header 10x2
footprint Header 10x2 (20-Pin, 10 Row, 2 Column Header)
pins: 1, 2, 3, 4, 5, 6, 7, 8, 9, 10, 11, 12, 13, 14, 15, 16, 17, 18, 19, 20

## Header 14 pin 50 mil
designator J?, comment FTSH-107-04-L-D
CONN HEADER VERT 14POS 1.27MM; Manufacturer_Name: SAMTEC; Datasheet Link: http://suddendocs.samtec.com/prints/ftsh-1xx-xx-xxx-d-xxx-xx-mkt.pdf; Manufacturer_Part_Number: FTSH-107-04-L-D
footprint FTSH-107-XX-YYY-D
pins: 1, 2, 3, 4, 5, 6, 7, 8, 9, 10, 11, 12, 13, 14

## Header 14x2 50mil
designator J?, comment 20021311-00014T4LF
CONN RCPT 14POS 0.05 GOLD PCB; Manufacturer_Name: Amphenol; Datasheet Link: https://media.digikey.com/pdf/Data%20Sheets/FCI%20PDFs/Minitek%20127_Catalog.pdf; Height: 4.4mm; Manufacturer_Part_Number: 20021311-00014T4LF
footprint 2002131100014T4LF
pins: 1, 2, 3, 4, 5, 6, 7, 8, 9, 10, 11, 12, 13, 14

## Header 20x1
designator J?
Pin Header 20x1
footprint Header 20x1 - 50mil (20-Pin, 20 Row, 1 Column. 50mil, Header)
footprint Header 20x1 - 100mil (20-Pin, 20 Row, 1 Column , 100mil, Header)
pins: 1, 2, 3, 4, 5, 6, 7, 8, 9, 10, 11, 12, 13, 14, 15, 16, 17, 18, 19, 20

## IND SMD
designator L?, comment value 1uH  (hidden comment: IND)
Surface Mount Inductor; Designer: OMIGA
footprint 0603-IND (Chip Inductor, 2-Leads, Body 1.60x0.80mm, IPC Low Density)
footprint 0805-IND (Chip Inductor, 2-Leads, Body 2.00x1.25mm, IPC Low Density)
footprint 1206-IND (Chip Inductor, 2-Leads, Body 3.20x1.60mm, IPC Low Density)
signal-integrity model IND (Inductor)
simulation model SMD IND (Surface Mount Inductor)
footprint 0402-IND (Chip Inductor, 2-Leads, Body 1.00x0.50mm, IPC Low Density)
footprint 0201 ferrite
footprint 0603-IND-slightlybigger (Chip Inductor, 2-Leads, Body 1.60x0.80mm, IPC Low Density)
pins: 1, 2

## Inductor
designator L?, comment XFL4020-102MEB
Fixed Inductors 1Uh Shld 11A 11.9mOhms AECQ2
footprint XFL4020102MEB
pins: 1, 2

## L_LNAoutput
designator L?
Manufacturer_Name: COILCRAFT; Manufacturer_Part_Number: 2712SP-101; Datasheet Link: https://www.coilcraft.com/getmedia/049861fb-4b1f-49a0-8888-8f560ba4e80b/1512sp.pdf; Height: 3.15mm
footprint L_LNAoutput
pins: 1, 2

## LED SMD
designator D?  Light Color: Green  (hidden comment: LED SMD)
Surface Mount Light Emitting Diode
footprint 0805-LED (Chip LED, 2-Leads, Body 2.00x1.25mm, IPC Low Density)
footprint 1206-LED (Chip LED, 2-Leads, Body 3.10x1.50mm, IPC Low Density)
simulation model 17_21SURC (Surface Mount Light Emitting Diode)
pins: 1 A, 2 K

## LM2852
designator U?
2A 500/1500kHz Synchronous SIMPLE SWITCHER® Buck Regulator; Designer: OMIGA
footprint 14 Ld - HTSSOP (PWP) (SSOP, 14-Leads, Body 5.00x4.40mm, Pitch 0.65mm, Thermal Pad 3.10.2x3.00.2mm, IPC Low Density)
pins: 1 AVIN (power) "Chip bias input", 2 EN "Enable", 3 SGND (power) "Signal ground", 4 SS "Soft-start", 5 NC hidden to 3 "No connect", 6 PVIN (power) "Input supply", 7 PVIN (power) "Input supply", 8 SW "Switch", 9 SW "Switch", 10 PGND (power) "Power ground", 11 PGND (power) "Power ground", 12 NC hidden to 11 "No connect", 13 NC hidden to 11 "No connect", 14 SNS "Output voltage sense"

## LMR64010XMFE_NOPB
designator IC?
Integrated Circuit; Manufacturer_Name: Texas Instruments; Manufacturer_Part_Number: LMR64010XMFE/NOPB; Datasheet Link: https://datasheet.datasheetarchive.com/originals/distributors/Datasheets-SFU2/DSASFU100037141.pdf; Height: 1.45mm; Mouser Part Number: 926-LMR64010XMFENOPB; Mouser Price/Stock: https://www.mouser.co.uk/ProductDetail/Texas-Instruments/LMR64010XMFE-NOPB?qs=zRaq9JBfD99xpcMQiBBEDQ%3D%3D; Arrow Part Number: LMR64010XMFE/NOPB; Arrow Price/Stock: https://www.arrow.com/en/products/lmr64010xmfenopb/texas-instruments?region=nac
footprint SOT95P280X145-5N
pins: 1 SW, 2 GND (power), 3 FB, 4 ~{SHDN}, 5 VIN (power)

## LPV521MGX/NOPB
designator U?
No Description Available; Mfr_Name: Texas Instruments; Copyright: Copyright (C) 2022 Ultra Librarian. All rights reserved.; Manufacturer_Part_Number: LPV521MGX/NOPB; Digi-Key_Part_Number_1: 296-41465-1-ND; Digi-Key_Part_Number_2: 296-41465-2-ND; Digi-Key_Part_Number_3: 296-41465-6-ND; Digi-Key_Part_Number_4: LPV521MGX/NOPB-ND; RefDes: RefDes; Type: DEV
footprint MAA05A
pins: 1 OUT (out), 2 V- (power), 3 IN+ (in), 4 IN- (in), 5 V+ (power)

## LT1965EQ
designator U?
1.1 A, Low Noise, Low Dropout Linear Regulator, 1.8 to 20 V Vin, 3.3 V Vout, 5-pin DPAK (Q-5), -40 to 125 degC, Pb-Free; Manufacturer: Linear Technology; PartNumber: LT1965EQ-3.3#PBF; Discrete Pass Element: no; Dropout Voltage(V): 0.31; Iout(mA): 1100; Isupply(mA): 0.5; Noise(uV): 40; Number of Outputs: 1; Output Voltage: 3.3 V; PSRR(dB): 75; Vin Max(V): 20; Vin Min(V): 1.8; DatasheetVersion: Rev. A; PackageVersion: Rev. F, 09/2011; PackageReference: Q-5; PackageDescription: 5-Pin Plastic DD Pak, Body 10.2235 x 8.89 mm, Pitch 1.702 mm; Supplier 1: Digi-Key; Supplier Part Number 1: LT1965EQ-3.3#PBF-ND; Supplier 2: Farnell; Supplier Part Number 2: 2295232; Supplier 3: Newark; Supplier Part Number 3: 24R6673; RoHS: TRUE; Shutdown Current(uA): 1; Mounting Technology: Surface Mount; ComponentLink1Description: Manufacturer URL; ComponentLink1URL: http://www.linear.com/; ComponentLink2Description: Datasheet; ComponentLink2URL: http://cds.linear.com/docs/en/datasheet/1965fa.pdf; ComponentLink3Description: Package Specification; ComponentLink3URL: http://cds.linear.com/docs/en/packaging/Q%20DD5%2005-08-1461%20Rev%20F.pdf
footprint 5ld - DDPAK (D2-PAK, 6-Pads, Body 7.80x8.63mm (max), IPC Low Density)
pins: 1 ~{SHDN} (in) "Shutdown. Pulling the S\H\D\N\ pin low puts the LT1965 into a low power state and turns the output off. Drive the S\H\D\N\ pin with either logic or an open collector/drain with a pull-up resistor. The resistor supplies the (See Datasheet)", 2 IN (power) "Input. This pin supplies power to the device. The LT1965 requires a bypass capacitor at IN if located more than six inches from the main input filter capacitor. Include a bypass capacitor in battery-powered circuits as a (See Datasheet)", 3 GND (power) "Ground.", 4 OUT (power) "Output. This pin supplies power to the load. Use a minimum output capacitor of 10uF to prevent oscillations. Large load transient applications require larger output capacitors to limit peak voltage transients. See the (See Datasheet)", 5 SENSE (in) "Sense. For fixed voltage versions of the LT1965 (LT1965-1.5/LT1965-1.8/ LT1965-2.5/ LT1965-3.3), the SENSE pin is the input to the error amplifier. Optimum regulation is obtained when the SENSE pin is connected to the OUT (See Datasheet)", 6 TAB (power) "Ground."

## LT3045
designator U?
500mA, Ultralow Noise, Ultrahigh PSRR Linear Regulator; Designer: OMIGA
footprint TSOP 12-Leads (TSOP, 12-Leads, Body 4.04x3.00mm, Pitch 0.65mm, Thermal Pad 2.95x1.76mm, IPC Low Density)
pins: 1 IN (power), 2 IN (power), 3 IN (power), 4 EN/UV, 5 PG, 6 ILIM, 7 PGFB, 8 SET, 9 GND (power), 10 OUTS, 11 OUT (power), 12 OUT (power), 13 GND (power)

## LT3045-1
designator U?
20V, 500mA, Ultralow Noise, Ultrahigh PSRR Linear Regulator with VIOC Control; Designer: OMIGA
footprint TSOP 12-Leads (TSOP, 12-Leads, Body 4.04x3.00mm, Pitch 0.65mm, Thermal Pad 2.95x1.76mm, IPC Low Density)
pins: 1 IN (power), 2 IN (power), 3 VIOC, 4 EN/UV, 5 PG, 6 ILIM, 7 PGFB, 8 SET, 9 GND (power), 10 OUTS, 11 OUT (power), 12 OUT (power), 13 GND (power)

## LT3092EDD#PBF
designator IC?
Integrated Circuit; Manufacturer_Name: Analog Devices; Manufacturer_Part_Number: LT3092EDD#PBF; Datasheet Link: https://datasheet.datasheetarchive.com/originals/distributors/Datasheets-SFU4/DSASF4000-3298.pdf; Height: 0.8mm
footprint SON50P300X300X80-9N-D
pins: 1 OUT_1, 2 OUT_2, 3 NC_1, 4 SET, 5 NC_2, 6 NC_3, 7 IN_1, 8 IN_2, 9 EP

## LT3094
designator U?
500mA, Ultralow Noise, Ultrahigh PSRR Negative Linear Regulator; Designer: OMIGA
footprint TSOP 12-Leads (TSOP, 12-Leads, Body 4.04x3.00mm, Pitch 0.65mm, Thermal Pad 2.95x1.76mm, IPC Low Density)
pins: 1 IN (power), 2 IN (power), 3 EN/UV, 4 PG, 5 PGFB, 6 ILIM, 7 VIOC (power), 8 SET, 9 GND (power), 10 OUTS, 11 OUT (power), 12 OUT (power), 13 IN (power)

## LTC4054
designator U?
Standalone Linear Li-Ion Battery Charger with Thermal Regulation in Thin SOT; Designer: OMIGA
footprint TSOT23-5-LEAD (SOT23, 5-Leads, Body 2.90x3.10mm, Pitch 0.95mm)
pins: 1 ~{CHRG} (oc), 2 GND (power), 3 BAT, 4 VCC (power), 5 PROG

## LTC6268
designator U?
500MHz Ultra-Low Bias  Current FET Input Op Amp; Designer: OMIGA
footprint 8ld - SOP_N (SOP, 8-Leads, Body 4.90x3.90mm, Pitch 1.27mm, IPC Low Density)
pins: 1 NC hidden, 2 -IN (in), 3 +IN (in), 4 NC hidden, 5 -VS (power), 6 VOUT (out), 7 +VS (power), 8 SHDN

## LTC6752
designator U?
280MHz, 2.9ns Comparator / Family with Rail-to-Rail Inputs / and CMOS Outputs
footprint TSOT23-5-LEAD (SOT23, 5-Leads, Body 2.90x3.10mm, Pitch 0.95mm)
pins: 1 Q (out), 2 VEE (power), 3 +IN (in), 4 -IN (in), 5 VCC (power)

## LTM8083IY
designator U?
36V, 1.5A Buck-Boost / µModule Regulator; Mfr_Name: Analog Devices Inc; Manufacturer_Part_Number: LTM8083IY#PBF; Copyright: Copyright (C) 2022 Ultra Librarian. All rights reserved.; RefDes: RefDes; Type: DEV
footprint BGA49_6P25X6P25X2P22_ADI
footprint BGA49_6P25X6P25X2P22_ADI-M
pins: A1 GND, A2 GND, A3 GND, A4 VIN (power), A5 VIN (power), A6 SVIN (power), A7 TST2 (io), B1 GND, B2 GND, B3 GND, B4 VIN (power), B5 VIN (power), B6 EN/UVLO (in), B7 OVLO, C1 GND, C2 GND, C3 GND, C4 GND, C5 GND, C6 INTVCC (power), C7 CTRL, D1 GND, D2 GND, D3 GND, D4 GND, D5 GND, D6 ISMON, D7 GND, E1 GND, E2 GND, E3 GND, E4 GND, E5 GND, E6 VC (out), E7 RT, F1 GND, F2 GND, F3 ISN, F4 VOUT (out), F5 VOUT (out), F6 SS, F7 FB, G1 GND, G2 GND, G3 ISP, G4 VOUT (out), G5 VOUT (out), G6 SYNC, G7 TST1 (io)

## MAX4372TEBT+T
designator IC?
Integrated Circuit; Manufacturer_Name: Analog Devices; Manufacturer_Part_Number: MAX4372TEBT+T; Datasheet Link: https://pdfserv.maximintegrated.com/en/ds/MAX4372-MAX4372T.pdf; Height: 0.67mm; Mouser Part Number: 700-MAX4372TEBT+T; Mouser Price/Stock: https://www.mouser.co.uk/ProductDetail/Maxim-Integrated/MAX4372TEBT%2bT?qs=1eQvB6Dk1vi20izC9qMksw%3D%3D
footprint BGA5C50P3X2_152X100X67
pins: A1 VCC, A2 GND, A3 OUT, B1 RS+, B3 RS-

## MAX17270ENE+T
designator IC?
nanoPower Triple-Output, Single-Inductor, / Multiple-Output (SIMO) Buck-Boost Regulator; Manufacturer_Name: Maxim Integrated; Manufacturer_Part_Number: MAX17270ENE+T; Datasheet Link: https://pdfserv.maximintegrated.com/en/ds/MAX17270-MAX17271.pdf; Height: 0.5mm
footprint BGA16C40P4X4_177X177X50
pins: A1 OUT1, A2 OUT2, A3 OUT3, A4 GND, B1 PGND, B2 LXB, B3 RSEL3, B4 EN3, C1 LXA, C2 BST, C3 RSEL2, C4 EN2, D1 VPWR, D2 VSUP, D3 RSEL1, D4 EN1

## MAX17291ANT+T
designator IC?
Integrated Circuit; Manufacturer_Name: Analog Devices; Manufacturer_Part_Number: MAX17291ANT+T; Datasheet Link: https://datasheets.maximintegrated.com/en/ds/MAX17291.pdf; Height: 0.5mm; Mouser Part Number: 700-MAX17291ANT+T; Mouser Price/Stock: https://www.mouser.co.uk/ProductDetail/Maxim-Integrated/MAX17291ANT%2bT?qs=zW32dvEIR3vWkhPvj9WnJw%3D%3D; Arrow Part Number: MAX17291ANT+T; Arrow Price/Stock: https://www.arrow.com/en/products/max17291antt/maxim-integrated?region=nac
footprint Maxim_Integrated_N60N1-1_MFG
pins: A1 LX, A2 IN, A3 EN, B1 GND, B2 OUT, B3 FB

## MAX44264EWT+T
designator U?
No Description Available; Mfr_Name: Maxim Integrated Products; Copyright: Copyright (C) 2022 Ultra Librarian. All rights reserved.; Manufacturer_Part_Number: MAX44264EWT+T; RefDes: RefDes; Type: DEV
footprint 21-0217D_W61B1-1_MXM
pins: A1 IN+ (in), A2 VSS (power), B1 IN- (in), B2 VDD (power), C1 OUT (out), C2 NC

## MBR0540-TP
designator D?
Schottky Diode; Manufacturer_Name: MCC; Manufacturer_Part_Number: MBR0540-TP; Datasheet Link: https://datasheet.lcsc.com/szlcsc/1903081705_Micro-Commercial-Components-MCC-MBR0540-TP_C78744.pdf; Height: 1.35mm; Mouser Part Number: 833-MBR0540-TP; Mouser Price/Stock: https://www.mouser.co.uk/ProductDetail/Micro-Commercial-Components-MCC/MBR0540-TP?qs=Vo7e0yZOYdEH3ZK7VsaoCA%3D%3D; Arrow Part Number: MBR0540-TP; Arrow Price/Stock: https://www.arrow.com/en/products/mbr0540-tp/micro-commercial-components?region=nac
footprint SOD3716X135N
pins: 1 K, 2 A

## MCP73831T-2ACI/OT
designator U?
Charger IC Lithium Ion/Polymer SOT-23-5
footprint SOT23-5 (SOT23, 5-Leads, Body 2.90x2.80mm, Pitch 0.95mm, IPC Low Density)
pins: 1 STAT, 2 VSS, 3 VBAT, 4 VDD, 5 PROG

## MicroUSB-B
designator J?
Conn Micro USB Type B RCP 5; Designer: OMIGA
footprint MicroUSB-B (Conn Micro USB Type B RCP 5)
pins: 0 Shell, 1 VBUS (power), 2 D-, 3 D+, 4 ID, 5 GND (power)

## MMC-Jack
designator J?
Multi Media Memory Module Jack; Designer: OMIGA
footprint MMC-Jack (Multi Media Memory Card Jack)
pins: 1 ~{CS}/D3 (io) "Chip Select / DATA 3", 2 SDI (io) "Serial Data Input", 3 GND (power) "Ground", 4 VS (power) "Power", 5 SCLK (in) "Serial Clock", 6 GND (power) "Ground", 7 SDO/D0 (io) "Serial Data Output / DATA 0", 8 D1 (io) "DATA 1", 9 D2 (io) "DATA 2", 10 Lock (out) "Lock Card"

## MMCX100M
designator J?, comment SMA Jack 100mil
RF Coaxial PCB Connector, MMCX; Thru-Hole, Vertical Mount Plug,  50 Ohm Impedance; PackageDocument: Rev. A, 16-Jun-1997; PCB_Layout: Complies with manufacturer's recommendation.; DrillSize: Corresponds to nominal value.; Published: 15-Jul-2004; LatestRevisionDate: 15-Jul-2004; LatestRevisionNote: Component Replaced.; DatasheetDocument: 30-May-2003; PackageReference: 908-21103; Publisher: Altium Limited; ComponentLink1Description: Manufacturer Link; ComponentLink1URL: http://www.amphenolrf.com/
footprint MMCX100M (Connector; RF Coaxial, MMCX, Thru-Hole; 5 Position; Vertical)
footprint MMCX100M-Right (Connector; RF Coaxial, MMCX, Thru-Hole; 5 Position; Vertical)
pins: 1 Signal "Signal Pin", 2 GND (power)

## Mounting Hole 42 mil
designator SC?, comment ScrewHole
Scrow Hole; Designer: OMIGA
footprint Mounting Hole 42 mil (Hole for Scrows)
pins: 1

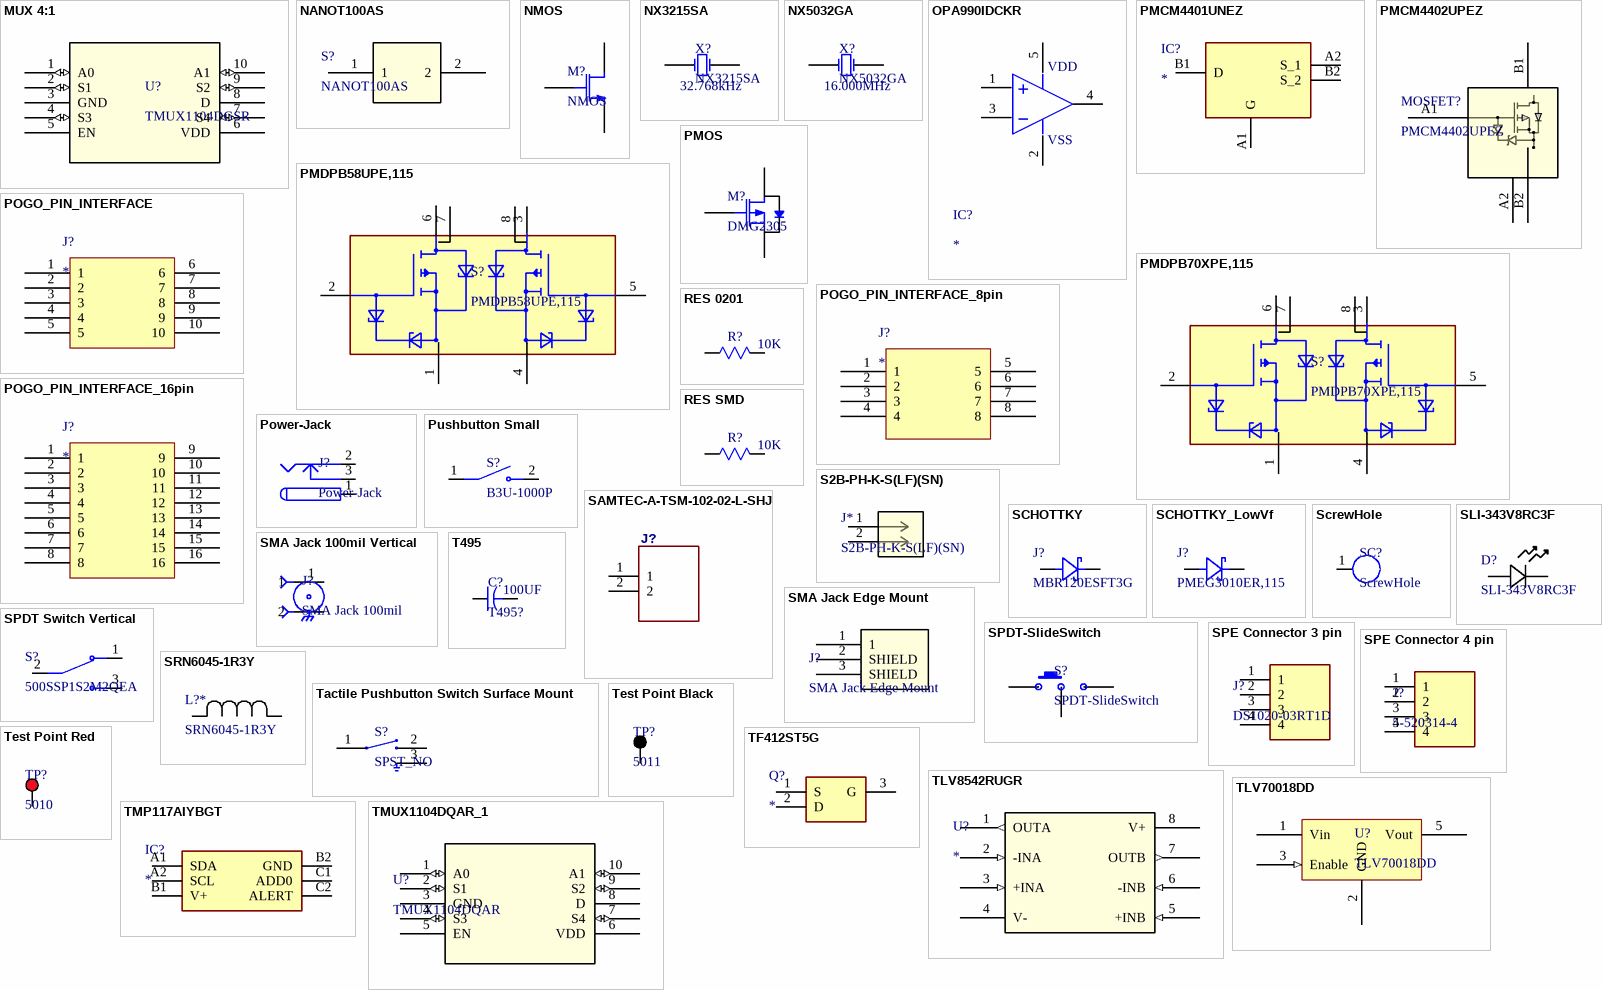
[diagram p3: symbols MUX 4:1 to TMUX1104DQAR_1]

## MUX 4:1
designator U?, comment TMUX1104DGSR
Circuit IC Switch 4:1 4Ohm 10-VSSOP
footprint DGS10_TEX
pins: 1 A0 (io), 2 S1 (io), 3 GND, 4 S3 (io), 5 EN, 6 VDD (power), 7 S4 (io), 8 D, 9 S2 (io), 10 A1 (io)

## NANOT100AS
designator S?
Smallest Push Button Switch; Mfr_Name: C&K; Copyright: Copyright (C) 2022 Ultra Librarian. All rights reserved.; Manufacturer_Part_Number: NANOT100AS; Digi-Key_Part_Number_1: 108-NANOT100ASTR-ND; Digi-Key_Part_Number_2: 108-NANOT100ASCT-ND; Digi-Key_Part_Number_3: 108-NANOT100ASDKR-ND; RefDes: RefDes; Type: DEV
footprint NANOT100AS_CNK-M
pins: 1, 2

## NMOS
designator M?
N-Channel MOSFET; Designer: OMIGA
footprint SOT23-3-Lead (SOT23, 3-Leads, Body 2.92x2.40mm, Pitch 0.95mm, IPC Low Density)
pins: 1 G, 2 S, 3 D

## NX3215SA
designator X?  Frequency: 32.768kHz
Crystal; Designer: OMIGA; Ordering: NX3215SA-32.768KHZ-EXS00A-MU00525
footprint NX3215SA (Crystal, 2-Leads, Body 3.20x1.50mm)
pins: 1 OSC1, 2 OSC2

## NX5032GA
designator X?  Frequency: 16.000MHz
Crystal; Designer: OMIGA; Ordering: NX5032GA-16.000000MHZ-LN-CD-1
footprint NX5032GA (Crystal. 2-Leads, Body 5.00x3.20mm)
pins: 1 OSC1, 2 OSC2

## OPA990IDCKR
designator IC?
Integrated Circuit; Manufacturer_Name: Texas Instruments; Manufacturer_Part_Number: OPA990IDCKR; Datasheet Link: https://www.ti.com/lit/gpn/OPA990; Height: 1.1mm; Mouser Part Number: 595-OPA990IDCKR; Mouser Price/Stock: https://www.mouser.co.uk/ProductDetail/Texas-Instruments/OPA990IDCKR?qs=XeJtXLiO41TSF5QBGuARgQ%3D%3D; Arrow Part Number: OPA990IDCKR; Arrow Price/Stock: https://www.arrow.com/en/products/opa990idckr/texas-instruments?region=nac
footprint SOT65P210X110-5N
pins: 1 IN+, 2 V-, 3 IN-, 4 OUT, 5 V+
text: VDD; VSS

## PMCM4401UNEZ
designator IC?
Integrated Circuit; Manufacturer_Name: Nexperia; Manufacturer_Part_Number: PMCM4401UNEZ; Datasheet Link: https://assets.nexperia.com/documents/data-sheet/PMCM4401UNE.pdf; Height: 0.375mm
footprint BGA4C40P2X2_78X78X38
pins: A1 G, A2 S_1, B1 D, B2 S_2

## PMCM4402UPEZ
designator MOSFET?
No Description Available; Mfr_Name: Nexperia; Copyright: Copyright (C) 2022 Ultra Librarian. All rights reserved.; Manufacturer_Part_Number: PMCM4402UPEZ; Digi-Key_Part_Number_1: 1727-7625-2-ND; Digi-Key_Part_Number_2: 1727-7625-1-ND; Digi-Key_Part_Number_3: 1727-7625-6-ND; Digi-Key_Part_Number_4: 2156-PMCM4402UPEZ-NEX-ND; RefDes: RefDes; Type: DEV
footprint WLCSP4_WLCSP4_2-2_NEX
pins: A1, A2, B1, B2

## PMDPB58UPE,115
designator S?
2-CH Power PMOS
footprint SOT1118
pins: 1 S1, 2 G1, 3 D2, 4 S2, 5 G2, 6 D1, 7 D1, 8 D2

## PMDPB70XPE,115
designator S?
2-CH Power PMOS
footprint SOT1118
pins: 1 S1, 2 G1, 3 D2, 4 S2, 5 G2, 6 D1, 7 D1, 8 D2

## PMOS
designator M?, comment DMG2305
P-Channel MOSFET DMG2305UX-13; Designer: OMIGA
footprint SOT23-3-Lead (SOT23, 3-Leads, Body 2.92x2.40mm, Pitch 0.95mm, IPC Low Density)
pins: 1 G, 2 S, 3 D

## POGO_PIN_INTERFACE
designator J?
footprint POGO_PIN_INTERFACE_10pin
pins: 1, 2, 3, 4, 5, 6, 7, 8, 9, 10

## POGO_PIN_INTERFACE_8pin
designator J?
footprint POGO_PIN_INTERFACE_8pin
pins: 1, 2, 3, 4, 5, 6, 7, 8

## POGO_PIN_INTERFACE_16pin
designator J?
footprint POGO_PIN_INTERFACE_16pin
pins: 1, 2, 3, 4, 5, 6, 7, 8, 9, 10, 11, 12, 13, 14, 15, 16

## Power-Jack
designator J?
Trough Hole Power Jack; Designer: OMIGA
footprint PWR-JACK-2.5 (Through Hole On Board Power Jack)
pins: 1 (power), 2 (power), 3 (power)

## Pushbutton Small
designator S?, comment B3U-1000P
SWITCH TACTILE SPST-NO 0.05A 12V
footprint SW_B3U-1000P
pins: 1, 2

## RES 0201
designator R?, comment value 10K  (hidden comment: RES)
Surface Mount Resistor; Designer: OMIGA
footprint 0201 res
pins: 1, 2

## RES SMD
designator R?, comment value 10K  (hidden comment: RES)
Surface Mount Resistor; Designer: OMIGA
signal-integrity model RES (Resistor)
footprint 0603-RES (Chip Resistor, 2-Leads, Body 1.60x0.80mm, IPC Low Density)
footprint 0805-RES (Chip Resistor, 2-Leads, Body 2.00x1.25mm, IPC Low Density)
footprint 1206-RES (Chip Resistor, 2-Leads, Body 3.20x1.60mm, IPC Low Density)
simulation model RES SMD (Surface Mount Resistor)
footprint 0402-RES
footprint 0201 res
pins: 1, 2

## S2B-PH-K-S(LF)(SN)
designator J*
Connector Header Through Hole, Right Angle 2 position 0.079" (2.00mm)
footprint CONN_S2B-PH-K-S_JST
pins: 1, 2

## SAMTEC-A-TSM-102-02-L-SHJ
designator J?
footprint SAMTEC-A-TSM-102-02-L-SH
pins: 1, 2

## SCHOTTKY
designator J?, comment MBR120ESFT3G
Diode Schottky 1A Surface Mount SOD-123FL
footprint SDO_SOD-123FL_ONS-L
pins: 1 11, 2 12

## SCHOTTKY_LowVf
designator J?, comment PMEG3010ER,115
footprint SDO_SOD-123FL_ONS-L
pins: 1 11, 2 12

## ScrewHole
designator SC?
Scrow Hole; Designer: OMIGA
footprint ScrowHole (Hole for Scrows)
pins: 1

## SLI-343V8RC3F
designator D?
No Description Available; Vendor: ROHM Semiconductor; Built_By: EMA_Matt; SourceLibrary: Rohm_2019-09-23; Manufacturer_Part_Number: SLI-343V8RC3F; Copyright: Copyright (C) 2018 Accelerated Designs. All rights reserved
footprint LED_SLI-343D_ROM
pins: 1, 2

## SMA Jack 100mil Vertical
designator J?, comment SMA Jack 100mil
RF Coaxial PCB Connector, MMCX; Thru-Hole, Vertical Mount Plug,  50 Ohm Impedance
footprint CONN_2985-6004_AMP
pins: 1, 2, 3 2, 4 2, 5 2

## SMA Jack Edge Mount
designator J?
SMA Jack edge mount 50ohm
footprint CONN_142-0701-801
pins: 1, 2 SHIELD, 3 SHIELD

## SPDT Switch Vertical
designator S?, comment 500SSP1S2M2QEA
SWITCH SLIDE SPDT 5A 120V
pins: 1 NC, 2 COM, 3 NO

## SPDT-SlideSwitch
designator S?
SPDT Slide Switch; Designer: OMIGA
footprint SPDT-SlideSwitch (SPDT Slide Switch)
pins: 1, 2, 3

## SPE Connector 3 pin
designator J?, comment DS1020-03RT1D
3 pin right angle SPE connector. Can also use the 5-520315-3-ND
footprint 55203144-2
pins: 1, 2, 3, 4

## SPE Connector 4 pin
designator J?, comment 5-520314-4
CONN FFC FPC TOP 4POS 2.54MM R/A
footprint 55203144-1
pins: 1, 2, 3, 4

## SRN6045-1R3Y
designator L?*
Semi-Shielded Wirewound Inductor 17mOhm Max Nonstandard
footprint IND_BOURNS_SRN6045
pins: 1, 2

## T495
designator C?, comment T495?  value 100UF
Surge Robust Low ESR Series Capacitor; Designer: OMIGA
signal-integrity model T495 CAP (T495D107K016ATE100)
footprint D Size Molded Cap (Molded Capacitor, 2-Leads, Size D, IPC Low Density)
simulation model T495 CAP (Surge Robust Low ESR Series Capacitor)
pins: 1, 2

## Tactile Pushbutton Switch Surface Mount
designator S?, comment SPST_NO
Tactile Switch SPST-NO Top Actuated Surface Mount; Parameter 1: 401-1427-1-ND
footprint SW_KMR221GLFS
pins: 1, 1, 2, 2, 3

## Test Point Black
designator TP?, comment 5011
PC TEST POINT MULTIPURPOSE BLACK
footprint KSTN-5011_V
pins: 1

## Test Point Red
designator TP?, comment 5010
PC TEST POINT MULTIPURPOSE RED
footprint KSTN-5010_V
pins: 1

## TF412ST5G
designator Q?
N-ch JFET Transistor; Manufacturer_Name: onsemi; Manufacturer_Part_Number: TF412ST5G; Datasheet Link: https://datasheet.datasheetarchive.com/originals/distributors/DKDS-17/338694.pdf; Height: 0.44mm; Mouser Part Number: 863-TF412ST5G; Mouser Price/Stock: https://www.mouser.co.uk/ProductDetail/onsemi/TF412ST5G?qs=k6dkFvHqcvBP99I1DFAJcQ%3D%3D; Arrow Part Number: TF412ST5G; Arrow Price/Stock: https://www.arrow.com/en/products/tf412st5g/on-semiconductor
footprint TF412ST5G
pins: 1 S, 2 D, 3 G

## TLV8542RUGR
designator U?
Low power, tiny, low input bias current opamp; Mfr_Name: Texas Instruments; RefDes: RefDes; Type: Type
footprint QFN50P150X150X40-8N
pins: 1 OUTA (out), 2 -INA (in), 3 +INA (in), 4 V- (power), 5 +INB (in), 6 -INB (in), 7 OUTB (out), 8 V+ (power)

## TLV70018DD
designator U?
200-mA, Low-IQ, Low-Dropout Regulator; Designer: OMIGA
footprint SOT23-5 (SOT23, 5-Leads, Body 2.90x2.80mm, Pitch 0.95mm, IPC Low Density)
pins: 1 Vin (power) "Input Voltage", 2 GND (power), 3 Enable (in) "Regulaor Enable", 4 NC hidden to 2 "No Connect", 5 Vout (power) "Output Voltage"

## TMP117AIYBGT
designator IC?
Integrated Circuit; Manufacturer_Name: Texas Instruments; Manufacturer_Part_Number: TMP117AIYBGT; Datasheet Link: https://www.ti.com/lit/ds/symlink/tmp117.pdf?ts=1654251909020&ref_url=https%253A%252F%252Fwww.ti.com%252Fproduct%252FTMP117%252Fpart-details%252FTMP117AIYBGT; Height: 0.531mm; Mouser2 Part Number: 595-TMP117AIYBGT; Mouser2 Price/Stock: https://www.mouser.com/Search/Refine.aspx?Keyword=595-TMP117AIYBGT
footprint BGA6C40P2X3_95X149X53
pins: A1 SDA, A2 SCL, B1 V+, B2 GND, C1 ADD0, C2 ALERT

## TMUX1104DQAR_1
designator U?, comment TMUX1104DQAR
No Description Available; Mfr_Name: Texas Instruments; Copyright: Copyright (C) 2022 Ultra Librarian. All rights reserved.; Manufacturer_Part_Number: TMUX1104DQAR; Digi-Key_Part_Number_1: 296-TMUX1104DQARTR-ND; Digi-Key_Part_Number_2: 296-TMUX1104DQARCT-ND; Digi-Key_Part_Number_3: 296-TMUX1104DQARDKR-ND; RefDes: RefDes; Type: DEV
footprint USON_104DQAR_TEX
pins: 1 A0 (io), 2 S1 (io), 3 GND, 4 S3 (io), 5 EN, 6 VDD (power), 7 S4 (io), 8 D, 9 S2 (io), 10 A1 (io)

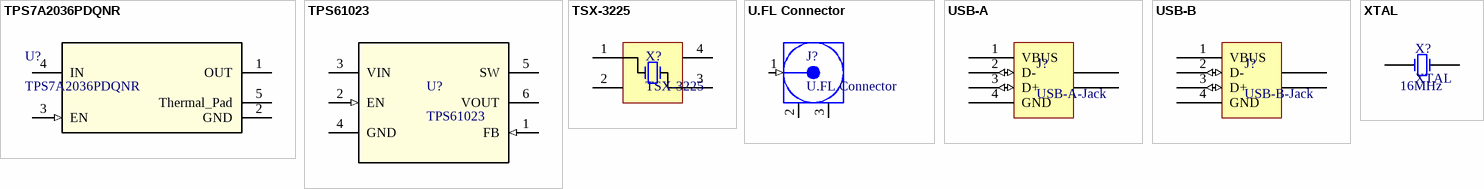
[diagram p4: symbols TPS7A2036PDQNR to XTAL]

## TPS7A2036PDQNR
designator U?
No Description Available; Mfr_Name: Texas Instruments; Type: DEV; RefDes: RefDes; Copyright: Copyright (C) 2022 Ultra Librarian. All rights reserved.; Manufacturer_Part_Number: TPS7A2036PDQNR
footprint DQN0004A-MFG
pins: 1 OUT, 2 GND (power), 3 EN (in), 4 IN (power), 5 Thermal_Pad

## TPS61023
designator U?
3.7-A Boost Converter with 0.5-V Ultra-low Input Voltage
footprint SOT563 (6 lead 1.20 mm × 1.60 mm)
pins: 1 FB (in), 2 EN (in), 3 VIN (power), 4 GND (power), 5 SW (power), 6 VOUT (power)

## TSX-3225
designator X?
MHz Range Crystal Oscillator; Designer: OMIGA
footprint TSX-3225 (DFN, 4-Leads, Body 2.50x3.20mm, Pitch 2.00mm, IPC Low Density)
pins: 1 "OSC1", 2 "Shield", 3 "OSC2", 4 "Shield"

## U.FL Connector
designator J?
Surface Mount, 50 Ohm Resistace, RF Connector; Designer: OMIGA
footprint U.FL-R-SMT-1 (Onboard UFL Jack)
pins: 1 Signal (in) "Signal Pin", 2 GND (power), 3 GND (power)

## USB-A
designator J?, comment USB-A-Jack
USB Type A (USB Host) Jack; Designer: OMIGA
footprint USB-A (Type A (USB Host) Jack)
pins: 1 VBUS (power) "Power", 2 D- (io) "-DATA", 3 D+ (io) "+DATA", 4 GND (power) "Ground", 5 SHLD "Shield", 6 SHLD "Shield"

## USB-B
designator J?, comment USB-B-Jack
USB Type B (USB Device) Jack; Designer: OMIGA
footprint USB-B (USB Type B (USB Device) Jack)
pins: 1 VBUS (power) "Power", 2 D- (io) "-DATA", 3 D+ (io) "+DATA", 4 GND (power) "Ground", 5 SHLD "Shield", 6 SHLD "Shield"

## XTAL
designator X?  Frequency: 16MHz
Quartz Crystal; Designer: OMIGA
footprint HC-49US(SMD) (SMD LOW PROFILE CRYSTAL)
footprint HC-49US (Quartz Crystal)
pins: 1 OSC1, 2 OSC2